# Altium schematic symbol library PlacaHallsLib.SchLib: 2 symbols
Pins are listed as number, name and electrical type; pins without a type are passive.

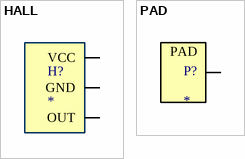
[diagram p0: symbols HALL to PAD]

## HALL
designator H?
HALL SENSOR
footprint Hall_Sensor
pins: 1 VCC, 2 GND, 3 OUT

## PAD
designator P?
footprint PAD
pins: 1 PD